# Altium footprint library Molex_430450418.PcbLib: 1 footprints
Each footprint in its own frame and in the unit in brackets; x right, y up, seen from the top. Pads: shape width x height; smd on the part's side, far side on the other; paste and mask are expansions set on the pad; w line width, h text height; cw(c..) or ccw(c..) is an arc to the next point about the centre after c.
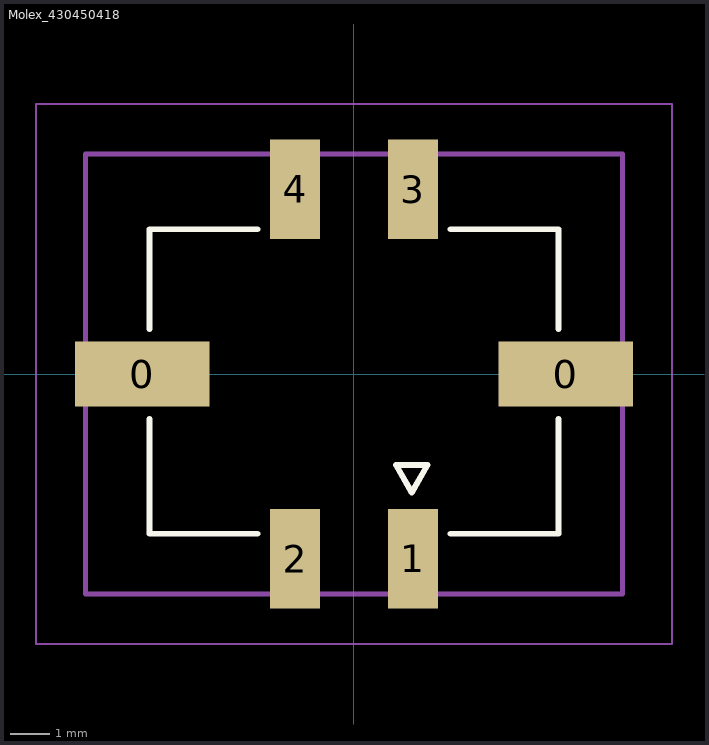
[diagram p0: the footprint, top view; thin cyan lines are the x and y axes]

## Molex_430450418 [mm]
pads (6):
  rect 3.43x1.65 smd mask+0.076: 0(-5.385,0) 0(5.385,0)
  rect 1.27x2.54 smd mask+0.076: 1(1.5,-4.7) 2(-1.5,-4.7) 3(1.5,4.7) 4(-1.5,4.7)
Top Overlay:
  lines w0.15: -5.207,-1.145 -5.207,-4.064 -2.455,-4.064 ; -5.207,1.145 -5.207,3.683 -2.455,3.683 ; 2.455,-4.064 5.207,-4.064 5.207,-1.145 ; 2.455,3.683 5.207,3.683 5.207,1.145 ; 1.07,-2.317 1.47,-3.017 1.87,-2.317 1.07,-2.317
Mechanical 13:
  lines w0.127: -6.825,-5.6 -6.825,5.6 6.825,5.6 6.825,-5.6 -6.825,-5.6 ; 1.07,-2.317 1.47,-3.017 1.87,-2.317 1.07,-2.317
Mechanical 15:
  lines w0.05: -8.095,-6.87 8.095,-6.87 8.095,6.87 -8.095,6.87 -8.095,-6.87
3D body "430450418--3DModel-STEP-56544.STEP": height 9.96, standoff 0, extent -6.825,-5.6 6.825,5.6